# Altium footprint library footprints.PCBLIB: 194 footprints (part 9 of 13)
Each footprint in its own frame and in the unit in brackets; x right, y up, seen from the top. Pads: shape width x height; smd on the part's side, far side on the other; paste and mask are expansions set on the pad; w line width, h text height; cw(c..) or ccw(c..) is an arc to the next point about the centre after c.
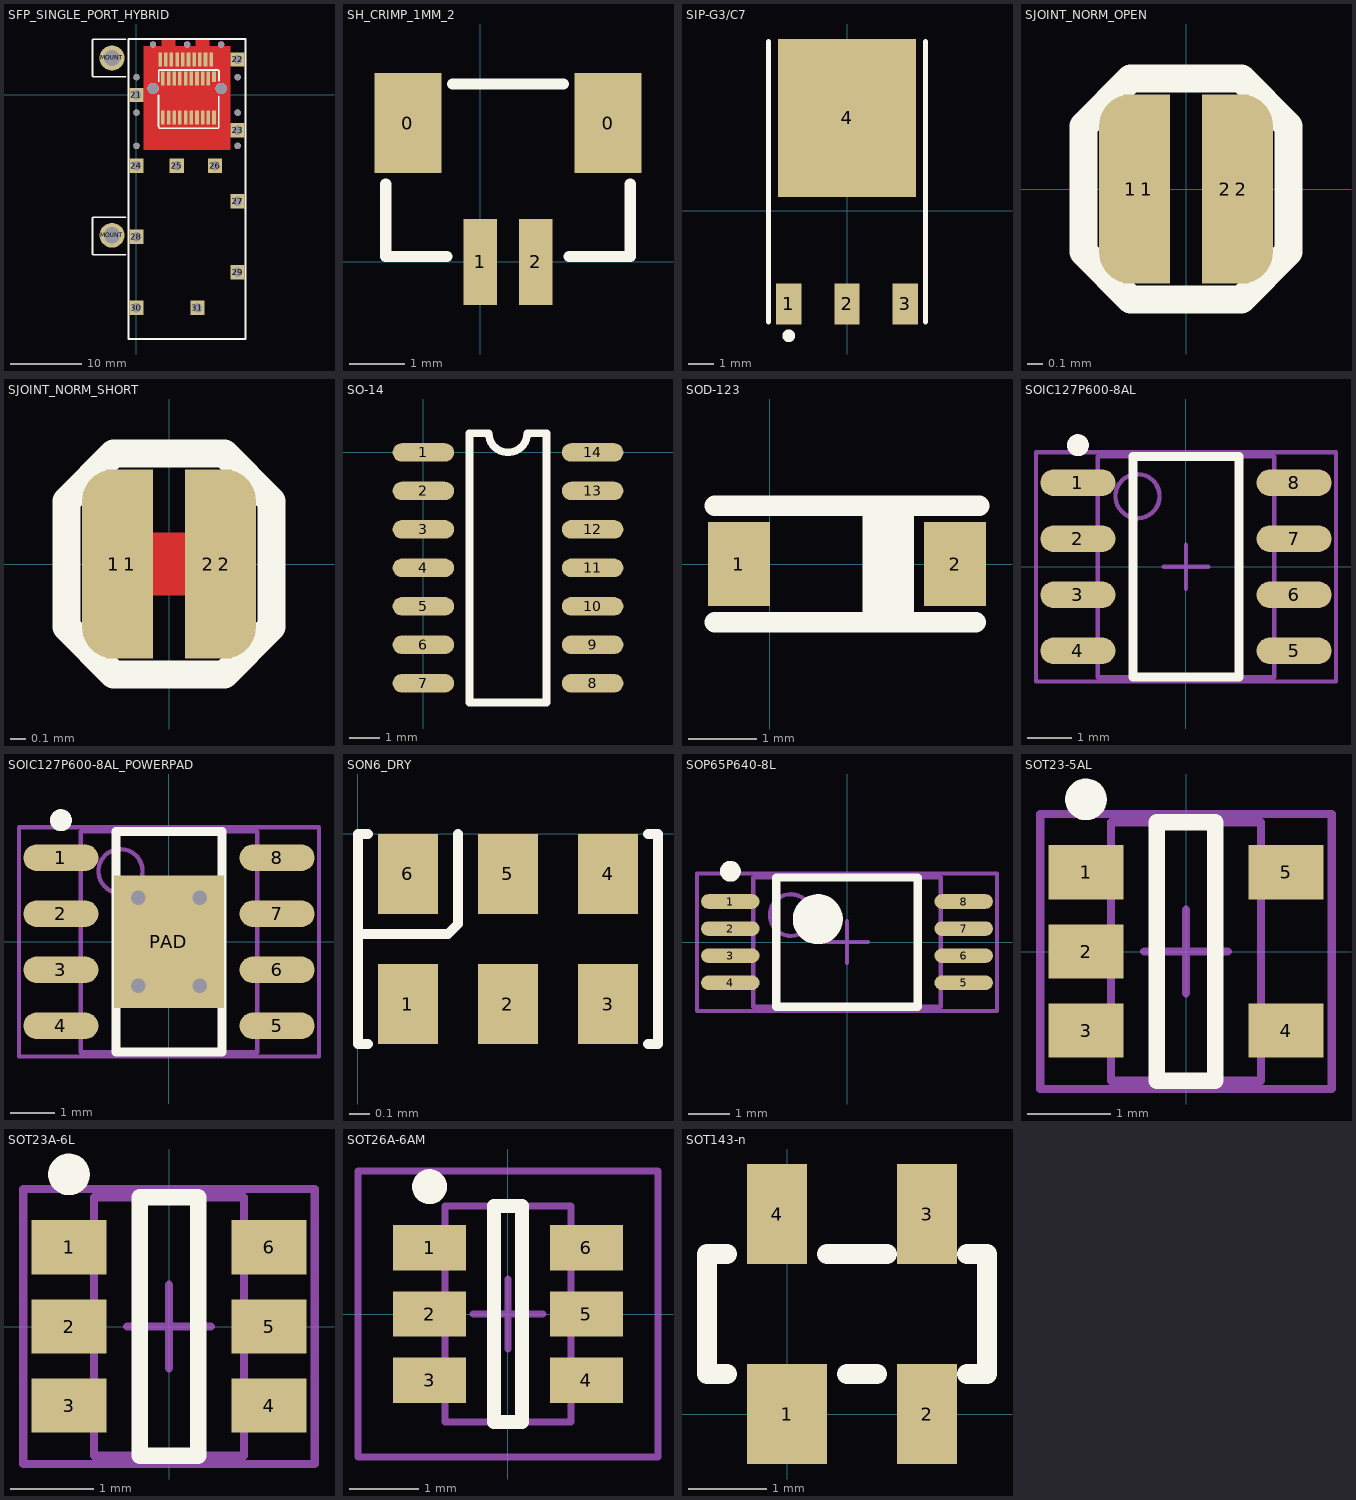
[diagram p8: the footprints below, top view; thin cyan lines are the x and y axes]

## SFP_SINGLE_PORT_HYBRID [mm]
pads (54):
  rect 0.5x2 smd: 1(3.73,-3.2) 2(4.53,-3.2) 3(5.33,-3.2) 4(6.13,-3.2) 5(6.93,-3.2) 6(7.73,-3.2) 7(8.53,-3.2) 8(9.33,-3.2) 9(10.13,-3.2) 10(10.93,-3.2) 11(10.53,5) 12(9.73,5) 12A(10.13,2.3) 13(8.93,5) 13A(9.33,2.3) 14(8.13,5) 14A(8.53,2.3) 15(7.33,5) 15A(7.73,2.3) 16(6.53,5) 16A(6.93,2.3) 17(5.73,5) 17A(6.13,2.3) 18(4.93,5) 18A(5.33,2.3) 19(4.13,5) 19A(4.53,2.3) 20(3.33,5) 20A(3.73,2.3)
  rect 0.5x1.5 smd: 11A(10.93,2.55)
  rect 2x2 hole 1.3: 21(0,0) 22(14.25,5) 23(14.25,-5) 24(0,-10) 25(5.68,-10) 26(11.08,-10) 27(14.25,-15) 28(0,-20) 29(14.25,-25) 30(0,-30) 31(8.58,-30)
  round 3.5 hole 2.3: MOUNT(-3.45,-19.8) MOUNT(-3.45,5.2)
  round 0.9 hole 0.9 unplated: ""(0,-7.2) ""(0,-2.5) ""(0,2.5) ""(2.33,7.1) ""(7.13,7.1) ""(11.93,7.1) ""(14.25,-7.2) ""(14.25,-2.5) ""(14.25,2.5)
  round 1.6 hole 1.6 unplated: ""(2.33,0.9) ""(11.93,0.9)
Top Layer:
  pour cut-out: 1.016,6.858 3.556,6.858 3.556,7.874 5.461,7.874 5.461,6.858 8.382,6.858 8.382,7.874 10.287,7.874 10.287,6.858 13.208,6.858 13.208,-7.747 1.016,-7.747
Top Overlay:
  lines w0.254: -1.5,-22.55 -6.1,-22.55 -6.2,-22.45 -6.2,-17.35 -6.1,-17.25 -1.5,-17.25 ; -1.5,2.55 -6.1,2.55 -6.2,2.65 -6.2,7.75 -6.1,7.85 -1.5,7.85 ; 3.1,-0.05 3.1,-4.5 3.3,-4.7 11.5,-4.7 11.6,-4.6 11.6,-0.2 ; 3.15,1.85 3.15,3.4 3.25,3.5 3.85,3.5 ; 3.8,3.5 10.9,3.5 11.5,3.5 11.65,3.35 11.65,2 ; -1.143,-34.417 -1.143,7.874 15.367,7.874 15.367,-34.417 -1.143,-34.417

## SH_CRIMP_1MM_2 [mm]
pads (4):
  rect 1.2x1.8 smd: 0(-1.3,2.5) 0(2.3,2.5)
  rect 0.6x1.55 smd: 1(0,0) 2(1,0)
Top Overlay:
  lines w0.2: -1.7,1.4 -1.7,0.1 -0.6,0.1 ; -0.5,3.2 1.5,3.2 ; 1.6,0.1 2.7,0.1 2.7,1.4

## SIP-G3/C7 [mm]
pads (4):
  rect 1x1.6 smd: 1(-2.285,-3.65) 2(0,-3.65) 3(2.285,-3.65)
  rect 5.4x6.2 smd: 4(0,3.65)
Top Overlay:
  circle w0.25: c-2.285,-4.9 r0.125
  lines w0.2: -3.085,-4.35 -3.085,6.65 ; 3.085,-4.35 3.085,6.65

## SJOINT_NORM_OPEN [mm]
pads (4):
  rrect100% 0.4x1.2 smd paste-1000: 1(-0.35,0) 2(0.35,0)
  rect 0.3x1.2 smd paste-1000: 1(-0.25,0) 2(0.25,0)
Top Overlay:
  lines w0.178: -0.65,-0.4 -0.65,0.4 -0.35,0.7 0.35,0.7 0.65,0.4 0.65,-0.4 0.35,-0.7 -0.35,-0.7 -0.65,-0.4
Top Solder:
  rectangle: -0.6,-0.65 0.6,0.65

## SJOINT_NORM_SHORT [mm]
pads (4):
  rrect100% 0.4x1.2 smd paste-1000: 1(-0.35,0) 2(0.35,0)
  rect 0.3x1.2 smd paste-1000: 1(-0.25,0) 2(0.25,0)
Top Layer:
  rectangle: -0.15,-0.2 0.15,0.2
Top Overlay:
  lines w0.178: -0.65,-0.4 -0.65,0.4 -0.35,0.7 0.35,0.7 0.65,0.4 0.65,-0.4 0.35,-0.7 -0.35,-0.7 -0.65,-0.4
Top Solder:
  rectangle: -0.6,-0.65 0.6,0.65

## SO-14 [mil]
pads (14):
  oval 80x24 smd: 1(0,0) 2(0,-50) 3(0,-100) 4(0,-150) 5(0,-200) 6(0,-250) 7(0,-300) 8(220,-300) 9(220,-250) 10(220,-200) 11(220,-150) 12(220,-100) 13(220,-50) 14(220,0)
Top Overlay:
  lines w10: 60,-325 60,25 85,25 ccw(c110,25) 135,25 160,25 160,-325 60,-325

## SOD-123 [mm]
pads (2):
  rect 0.9x1.22 smd: 1(-0.45,0) 2(2.7,0)
Top Overlay:
  lines w0.3: -0.8,-0.85 3,-0.85 ; -0.8,0.85 3.05,0.85 ; 1.5,-0.75 1.5,0.85 ; 1.65,-0.75 1.65,0.8 ; 1.95,-0.7 1.95,0.8

## SOIC8_NARROW [mm]

## SOIC127P600-8AL [mm] "SOIC, 8-Leads, Body 4.9x3.9mm, Pitch 1.27mm, IPC High Density"
height 2.72
pads (8):
  oval 1.7x0.6 smd: 1(-2.45,1.905) 2(-2.45,0.635) 3(-2.45,-0.635) 4(-2.45,-1.905) 5(2.45,-1.905) 6(2.45,-0.635) 7(2.45,0.635) 8(2.45,1.905)
Top Overlay:
  circle w0.25: c-2.45,2.755 r0.125
  lines w0.2: -1.2,-2.5 -1.2,2.5 1.2,2.5 1.2,-2.5 -1.2,-2.5
Mechanical 13:
  circle w0.1: c-1.1,1.6 r0.5
  lines w0.1: -2,-2.5 -2,2.5 2,2.5 2,-2.5 -2,-2.5
Mechanical 15:
  lines w0.1: -0.5,0 0.5,0 ; 0,-0.5 0,0.5 ; -3.4,-2.6 -3.4,2.6 3.4,2.6 3.4,-2.6 -3.4,-2.6
3D body: height 2.72, standoff 0, extent -2,-2.5 2,2.5

## SOIC127P600-8AL_POWERPAD [mm] "SOIC, 8-Leads, Body 4.9x3.9mm, Pitch 1.27mm, IPC High Density"
height 2.72
pads (9):
  oval 1.7x0.6 smd: 1(-2.45,1.905) 2(-2.45,0.635) 3(-2.45,-0.635) 4(-2.45,-1.905) 5(2.45,-1.905) 6(2.45,-0.635) 7(2.45,0.635) 8(2.45,1.905)
  rect 2.489x2.997 smd: PAD(0,0)
via -0.7,-1 diameter 0.711 hole 0.33
via 0.7,-1 diameter 0.711 hole 0.33
via 0.7,1 diameter 0.711 hole 0.33
via -0.7,1 diameter 0.711 hole 0.33
Top Overlay:
  circle w0.25: c-2.45,2.755 r0.125
  lines w0.2: -1.2,-2.5 -1.2,2.5 1.2,2.5 1.2,-2.5 -1.2,-2.5
Mechanical 13:
  circle w0.1: c-1.1,1.6 r0.5
  lines w0.1: -2,-2.5 -2,2.5 2,2.5 2,-2.5 -2,-2.5
Mechanical 15:
  lines w0.1: -0.5,0 0.5,0 ; 0,-0.5 0,0.5 ; -3.4,-2.6 -3.4,2.6 3.4,2.6 3.4,-2.6 -3.4,-2.6
3D body: height 2.72, standoff 0, extent -2,-2.5 2,2.5

## SON6_DRY [mm]
pads (6):
  rect 0.3x0.4 smd paste-10 mask+0.07: 1(0.25,-0.85) 2(0.75,-0.85) 3(1.25,-0.85) 4(1.25,-0.2) 5(0.75,-0.2) 6(0.25,-0.2)
Top Overlay:
  lines w0.05: 0,-0.5 0.35,-0.5 0.45,-0.5 0.5,-0.45 0.5,-0.2 0.5,0 ; 0.05,-1.05 0,-1.05 0,0 0.05,0 ; 1.45,-1.05 1.5,-1.05 1.5,0 1.45,0

## SOP65P640-8L [mm] "SOP, 8-Leads, Body 3x4.4mm, Pitch 0.65mm, IPC High Density"
height 2
pads (8):
  oval 1.4x0.35 smd: 1(-2.8,0.975) 2(-2.8,0.325) 3(-2.8,-0.325) 4(-2.8,-0.975) 5(2.8,-0.975) 6(2.8,-0.325) 7(2.8,0.325) 8(2.8,0.975)
Top Overlay:
  circle w0.6: c-0.7,0.55 r0.3
  circle w0.25: c-2.8,1.7 r0.125
  lines w0.2: -1.7,-1.55 1.7,-1.55 1.7,1.55 -1.7,1.55 -1.7,-1.55
Mechanical 13:
  circle w0.1: c-1.35,0.65 r0.5
  lines w0.1: -2.25,-1.55 2.25,-1.55 2.25,1.55 -2.25,1.55 -2.25,-1.55
Mechanical 15:
  lines w0.1: -0.5,0 0.5,0 ; 0,-0.5 0,0.5 ; -3.6,-1.65 3.6,-1.65 3.6,1.65 -3.6,1.65 -3.6,-1.65
3D body: height 2, standoff 0, extent -2.25,-1.55 2.25,1.55

## SOT23-5AL [mm] "SOT23, 5-Leads, Body 2.9x1.6mm, Pitch 0.95mm, Lead Span 2.8mm, IPC High Density"
height 1.45
pads (5):
  rect 0.9x0.65 smd: 1(-1.2,0.95) 2(-1.2,0) 3(-1.2,-0.95) 4(1.2,-0.95) 5(1.2,0.95)
Top Overlay:
  circle w0.25: c-1.2,1.825 r0.125
  lines w0.2: -0.35,-1.55 -0.35,1.55 0.35,1.55 0.35,-1.55 -0.35,-1.55
Mechanical 13:
  lines w0.1: -0.9,-1.55 0.9,-1.55 0.9,1.55 -0.9,1.55 -0.9,-1.55
Mechanical 15:
  lines w0.1: -0.5,0 0.5,0 ; 0,-0.5 0,0.5 ; -1.75,-1.65 1.75,-1.65 1.75,1.65 -1.75,1.65 -1.75,-1.65
3D body: height 1.45, standoff 0, extent -0.9,-1.55 0.9,1.55

## SOT23A-6L [mm] "SOT23, 6-Leads, Body 2.9x1.7mm, Pitch 0.95mm, Lead Span 2.8mm, IPC High Density"
height 1.45
pads (6):
  rect 0.9x0.65 smd: 1(-1.2,0.95) 2(-1.2,0) 3(-1.2,-0.95) 4(1.2,-0.95) 5(1.2,0) 6(1.2,0.95)
Top Overlay:
  circle w0.25: c-1.2,1.825 r0.125
  lines w0.2: -0.35,-1.55 0.35,-1.55 0.35,1.55 -0.35,1.55 -0.35,-1.55
Mechanical 13:
  lines w0.1: -0.9,-1.55 -0.9,1.55 0.9,1.55 0.9,-1.55 -0.9,-1.55
Mechanical 15:
  lines w0.1: -0.5,0 0.5,0 ; 0,-0.5 0,0.5 ; -1.75,-1.65 -1.75,1.65 1.75,1.65 1.75,-1.65 -1.75,-1.65
3D body: height 1.45, standoff 0, extent -0.9,-1.55 0.9,1.55

## SOT26A-6AM [mm]
pads (6):
  rect 1.05x0.65 smd: 1(-1.125,0.95) 2(-1.125,0) 3(-1.125,-0.95) 4(1.125,-0.95) 5(1.125,0) 6(1.125,0.95)
Top Overlay:
  circle w0.25: c-1.125,1.825 r0.125
  lines w0.2: -0.2,-1.55 -0.2,1.55 0.2,1.55 0.2,-1.55 -0.2,-1.55
Mechanical 13:
  lines w0.1: -0.9,-1.55 0.9,-1.55 0.9,1.55 -0.9,1.55 -0.9,-1.55
Mechanical 15:
  lines w0.1: -0.5,0 0.5,0 ; 0,-0.5 0,0.5 ; -2.15,-2.05 2.15,-2.05 2.15,2.05 -2.15,2.05 -2.15,-2.05
3D body: height 0, standoff 0, extent -0.9,-1.55 0.9,1.55

## SOT143-n [mil]
pads (4):
  rect 40x50 smd: 1(0,0)
  rect 30x50 smd: 2(70,0) 3(70,100) 4(-5,100)
Top Overlay:
  lines w10: -30,20 -40,20 -40,80 -30,80 ; 20,80 40,80 50,80 ; 30,20 45,20 ; 90,20 100,20 100,80 90,80